# Altium schematic symbol library CN SHROUDED HDR 4POS.Schlib: 1 symbol
Pins are listed as number, name and electrical type; pins without a type are passive.

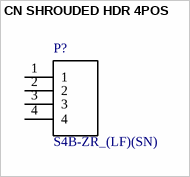
[diagram p0: symbol CN SHROUDED HDR 4POS]

## CN SHROUDED HDR 4POS
designator P?, comment S4B-ZR_(LF)(SN)
Conn Shrouded Header HDR 4 POS 1.5mm Solder RA Thru-Hole Box
pins: 1, 2, 3, 4